# Altium schematic symbol library IC_Logic.SchLib: 4 symbols
Pins are listed as number, name and electrical type; pins without a type are passive.

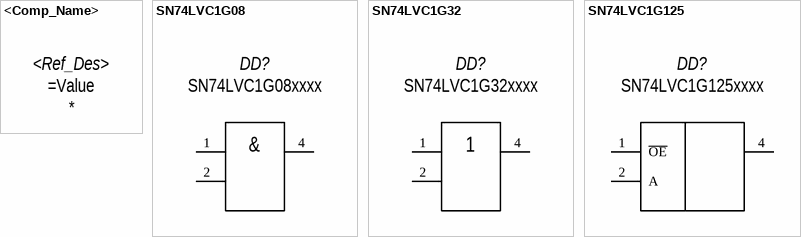
[diagram p0: symbols <Comp_Name> to SN74LVC1G125]

## <Comp_Name>
designator <Ref_Des>
<element_assignmen>; Manufacturer: *; HelpURL: *; Value: =Value

## SN74LVC1G08
designator DD?  value SN74LVC1G08xxxx  (hidden comment: *)
Single 2-Input Positive-AND Gate; Manufacturer: Texas Instruments; HelpURL: http://www.ti.com/lit/ds/symlink/sn74lvc1g08.pdf
footprint SOT23-5 (SOT23, 5 pins)
pins: 1 A, 2 B, 3 GND (power) hidden to GND, 4 Y, 5 VCC (power) hidden to VCC
text: &

## SN74LVC1G32
designator DD?  value SN74LVC1G32xxxx  (hidden comment: *)
Single 2-Input Positive-OR Gate; Manufacturer: Texas Instruments; HelpURL: http://www.ti.com/lit/ds/symlink/sn74lvc1g32.pdf
footprint SOT23-5 (SOT23, 5 pins)
pins: 1 A, 2 B, 3 GND (power) hidden to GND, 4 Y, 5 VCC (power) hidden to VCC

## SN74LVC1G125
designator DD?  value SN74LVC1G125xxxx  (hidden comment: *)
Single Bus Buffer Gate With 3-State Output; Manufacturer: Texas Instruments; HelpURL: http://www.ti.com/lit/ds/symlink/sn74lvc1g125.pdf
footprint SOT23-5 (SOT23, 5 pins)
pins: 1 ~{OE}, 2 A, 3 GND (power) hidden to GND, 4 Y, 5 VCC (power) hidden to VCC